# EAGLE library part TA8428K (library ta8428k)
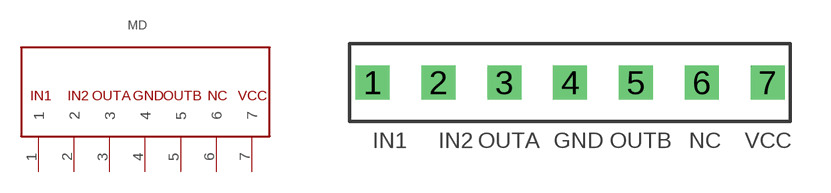
[diagram p0: symbol with the pads of MOTOR_DRIVER; footprint MOTOR_DRIVER]

Designator prefix MD

## TA8428K  [MOTOR_DRIVER]
1  1
2  2
3  3
4  4
5  5
6  6
7  7

## Footprint MOTOR_DRIVER (pad centres in mm)
drill 0.8 pad 1.27 square: 1 -7.62,0; 2 -5.08,0; 3 -2.54,0; 4 0,0; 5 2.54,0; 6 5.08,0; 7 7.62,0